# Altium schematic symbol library STM32MP157FAC1.SchLib: 1 symbol
Pins are listed as number, name and electrical type; pins without a type are passive.

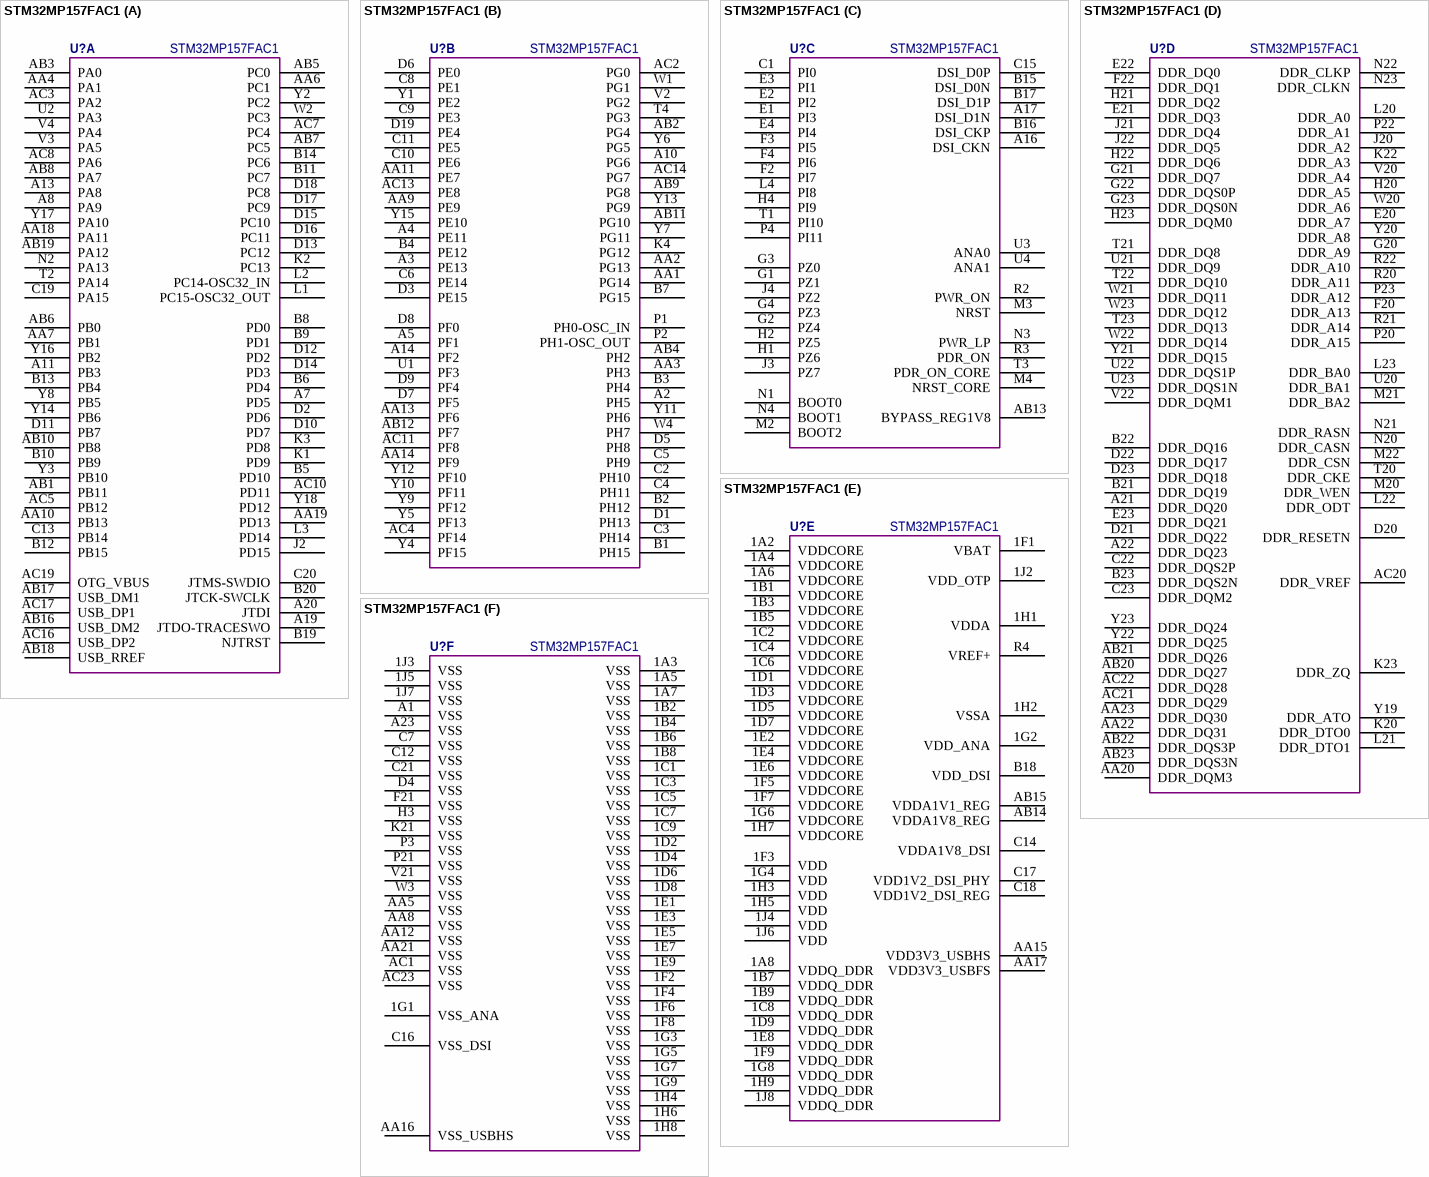
[diagram p0: symbol STM32MP157FAC1]

## STM32MP157FAC1
designator U?  value STM32MP157FAC1
MPU TFBGA12x12 secure boot+crypto increased frequency Final Marking; Internal_Part_Number: MCD-01984; Part_Type: IC; Manufacturer: STMICROELECTRONICS; BMS_Part_Number: TBD; Provided_By: SUBCO with ST control; ECCN_US: 5A992C; ECCN_EU: 5A002A4; Status: Footprint available; Manufacturer_Part_Number: STM32MP157FAC1; ComponentLink1Description: Datasheet; ComponentLink1URL: http://tunmcdsvn.tun.st.com/Component_Datasheet_Library/Trunk/IC/STM_MPU_12x12_POA_DM00342580_POA12x12; Package: TFBGA
footprint ICC_TFBGA361_12X12_STM32MP157FAC3_P050-065
part A pins: A7 PD5, A8 PA9, A11 PB3, A13 PA8, A19 JTDO-TRACESWO, A20 JTDI, AA4 PA1, AA6 PC1, AA7 PB1, AA10 PB13, AA18 PA11, AA19 PD13, AB1 PB11, AB3 PA0, AB5 PC0, AB6 PB0, AB7 PC5, AB8 PA7, AB10 PB8, AB16 USB_DM2, AB17 USB_DM1, AB18 USB_RREF, AB19 PA12, AC3 PA2, AC5 PB12, AC7 PC4, AC8 PA6, AC10 PD11, AC16 USB_DP2, AC17 USB_DP1, AC19 OTG_VBUS, B5 PD10, B6 PD4, B8 PD0, B9 PD1, B10 PB9, B11 PC7, B12 PB15, B13 PB4, B14 PC6, B19 NJTRST, B20 JTCK-SWCLK, C13 PB14, C19 PA15, C20 JTMS-SWDIO, D2 PD6, D10 PD7, D11 PB7, D12 PD2, D13 PC12, D14 PD3, D15 PC10, D16 PC11, D17 PC9, D18 PC8, J2 PD15, K1 PD9, K2 PC13, K3 PD8, L1 PC15-OSC32_OUT, L2 PC14-OSC32_IN, L3 PD14, N2 PA13, T2 PA14, U2 PA3, V3 PA5, V4 PA4, W2 PC3, Y2 PC2, Y3 PB10, Y8 PB5, Y14 PB6, Y16 PB2, Y17 PA10, Y18 PD12
part B pins: A2 PH5, A3 PE13, A4 PE11, A5 PF1, A10 PG6, A14 PF2, AA1 PG14, AA2 PG13, AA3 PH3, AA9 PE9, AA11 PE7, AA13 PF6, AA14 PF9, AB2 PG4, AB4 PH2, AB9 PG8, AB11 PG10, AB12 PF7, AC2 PG0, AC4 PF14, AC11 PF8, AC13 PE8, AC14 PG7, B1 PH15, B2 PH12, B3 PH4, B4 PE12, B7 PG15, C2 PH10, C3 PH14, C4 PH11, C5 PH9, C6 PE14, C8 PE1, C9 PE3, C10 PE6, C11 PE5, D1 PH13, D3 PE15, D5 PH8, D6 PE0, D7 PF5, D8 PF0, D9 PF4, D19 PE4, K4 PG12, P1 PH0-OSC_IN, P2 PH1-OSC_OUT, T4 PG3, U1 PF3, V2 PG2, W1 PG1, W4 PH7, Y1 PE2, Y4 PF15, Y5 PF13, Y6 PG5, Y7 PG11, Y9 PF12, Y10 PF11, Y11 PH6, Y12 PF10, Y13 PG9, Y15 PE10
part C pins: A16 DSI_CKN, A17 DSI_D1N, AB13 BYPASS_REG1V8, B15 DSI_D0N, B16 DSI_CKP, B17 DSI_D1P, C1 PI0, C15 DSI_D0P, E1 PI3, E2 PI2, E3 PI1, E4 PI4, F2 PI7, F3 PI5, F4 PI6, G1 PZ1, G2 PZ4, G3 PZ0, G4 PZ3, H1 PZ6, H2 PZ5, H4 PI9, J3 PZ7, J4 PZ2, L4 PI8, M2 BOOT2, M3 NRST, M4 NRST_CORE, N1 BOOT0, N3 PWR_LP, N4 BOOT1, P4 PI11, R2 PWR_ON, R3 PDR_ON, T1 PI10, T3 PDR_ON_CORE, U3 ANA0, U4 ANA1
part D pins: A21 DDR_DQ20, A22 DDR_DQ23, AA20 DDR_DQM3, AA22 DDR_DQ31, AA23 DDR_DQ30, AB20 DDR_DQ27, AB21 DDR_DQ26, AB22 DDR_DQS3P, AB23 DDR_DQS3N, AC20 DDR_VREF, AC21 DDR_DQ29, AC22 DDR_DQ28, B21 DDR_DQ19, B22 DDR_DQ16, B23 DDR_DQS2N, C22 DDR_DQS2P, C23 DDR_DQM2, D20 DDR_RESETN, D21 DDR_DQ22, D22 DDR_DQ17, D23 DDR_DQ18, E20 DDR_A7, E21 DDR_DQ3, E22 DDR_DQ0, E23 DDR_DQ21, F20 DDR_A13, F22 DDR_DQ1, G20 DDR_A9, G21 DDR_DQ7, G22 DDR_DQS0P, G23 DDR_DQS0N, H20 DDR_A5, H21 DDR_DQ2, H22 DDR_DQ6, H23 DDR_DQM0, J20 DDR_A2, J21 DDR_DQ4, J22 DDR_DQ5, K20 DDR_DTO0, K22 DDR_A3, K23 DDR_ZQ, L20 DDR_A0, L21 DDR_DTO1, L22 DDR_ODT, L23 DDR_BA0, M20 DDR_WEN, M21 DDR_BA2, M22 DDR_CSN, N20 DDR_CASN, N21 DDR_RASN, N22 DDR_CLKP, N23 DDR_CLKN, P20 DDR_A15, P22 DDR_A1, P23 DDR_A12, R20 DDR_A11, R21 DDR_A14, R22 DDR_A10, T20 DDR_CKE, T21 DDR_DQ8, T22 DDR_DQ10, T23 DDR_DQ13, U20 DDR_BA1, U21 DDR_DQ9, U22 DDR_DQS1P, U23 DDR_DQS1N, V20 DDR_A4, V22 DDR_DQM1, W20 DDR_A6, W21 DDR_DQ11, W22 DDR_DQ14, W23 DDR_DQ12, Y19 DDR_ATO, Y20 DDR_A8, Y21 DDR_DQ15, Y22 DDR_DQ25, Y23 DDR_DQ24
part E pins: 1A2 VDDCORE, 1A4 VDDCORE, 1A6 VDDCORE, 1A8 VDDQ_DDR, 1B1 VDDCORE, 1B3 VDDCORE, 1B5 VDDCORE, 1B7 VDDQ_DDR, 1B9 VDDQ_DDR, 1C2 VDDCORE, 1C4 VDDCORE, 1C6 VDDCORE, 1C8 VDDQ_DDR, 1D1 VDDCORE, 1D3 VDDCORE, 1D5 VDDCORE, 1D7 VDDCORE, 1D9 VDDQ_DDR, 1E2 VDDCORE, 1E4 VDDCORE, 1E6 VDDCORE, 1E8 VDDQ_DDR, 1F1 VBAT, 1F3 VDD, 1F5 VDDCORE, 1F7 VDDCORE, 1F9 VDDQ_DDR, 1G2 VDD_ANA, 1G4 VDD, 1G6 VDDCORE, 1G8 VDDQ_DDR, 1H1 VDDA, 1H2 VSSA, 1H3 VDD, 1H5 VDD, 1H7 VDDCORE, 1H9 VDDQ_DDR, 1J2 VDD_OTP, 1J4 VDD, 1J6 VDD, 1J8 VDDQ_DDR, AA15 VDD3V3_USBHS, AA17 VDD3V3_USBFS, AB14 VDDA1V8_REG, AB15 VDDA1V1_REG, B18 VDD_DSI, C14 VDDA1V8_DSI, C17 VDD1V2_DSI_PHY, C18 VDD1V2_DSI_REG, R4 VREF+
part F pins: 1A3 VSS, 1A5 VSS, 1A7 VSS, 1B2 VSS, 1B4 VSS, 1B6 VSS, 1B8 VSS, 1C1 VSS, 1C3 VSS, 1C5 VSS, 1C7 VSS, 1C9 VSS, 1D2 VSS, 1D4 VSS, 1D6 VSS, 1D8 VSS, 1E1 VSS, 1E3 VSS, 1E5 VSS, 1E7 VSS, 1E9 VSS, 1F2 VSS, 1F4 VSS, 1F6 VSS, 1F8 VSS, 1G1 VSS_ANA, 1G3 VSS, 1G5 VSS, 1G7 VSS, 1G9 VSS, 1H4 VSS, 1H6 VSS, 1H8 VSS, 1J3 VSS, 1J5 VSS, 1J7 VSS, A1 VSS, A23 VSS, AA5 VSS, AA8 VSS, AA12 VSS, AA16 VSS_USBHS, AA21 VSS, AC1 VSS, AC23 VSS, C7 VSS, C12 VSS, C16 VSS_DSI, C21 VSS, D4 VSS, F21 VSS, H3 VSS, K21 VSS, P3 VSS, P21 VSS, V21 VSS, W3 VSS